# Altium integrated library AO3400.IntLib: 1 symbol
Pins are listed as number, name and electrical type; pins without a type are passive.

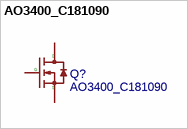
[diagram p0: symbol AO3400_C181090]

## AO3400_C181090
designator Q?
BOM_Manufacturer: Hottech; BOM_Manufacturer Part: AO3400; Contributor: LCSC; libConvert: Yes; BOM_Supplier: LCSC; BOM_Supplier Part: C181090; Add into BOM: Yes; BOM_JLCPCB Part Class: Extended Part; spicePre: Q; spiceSymbolName: AO3400_C181090
footprint SOT-23-3_L2.9-W1.3-P1.90-LS2.4-BR
pins: 1 G, 2 S, 3 D